# EAGLE library part ULN2803-DIL18 (library GPIOexpander)
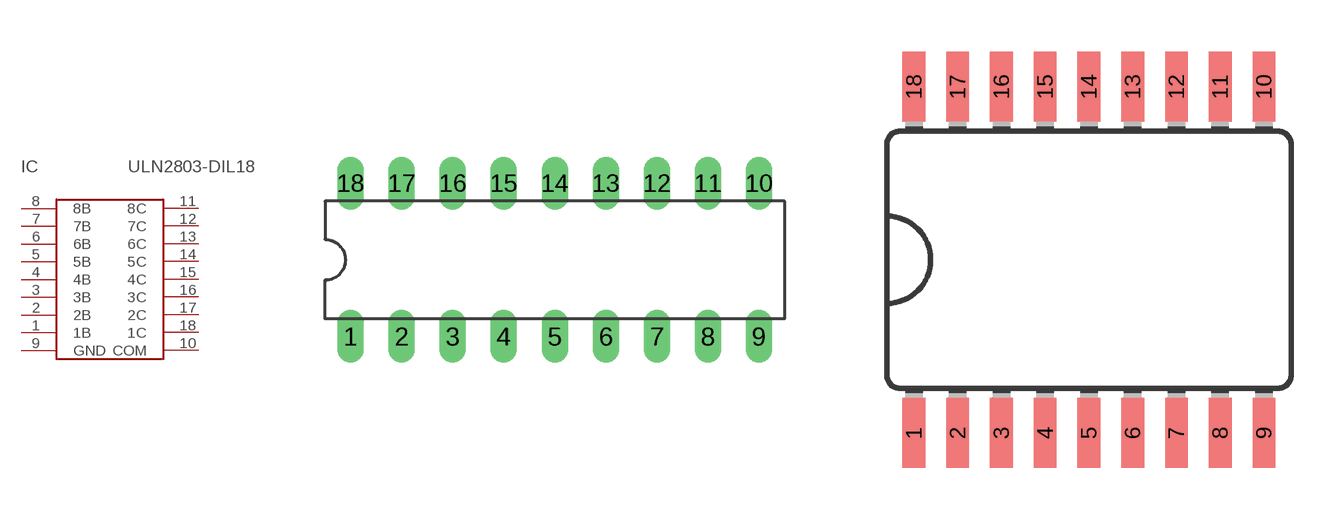
[diagram p1: symbol with the pads of DIL18; footprints DIL18, SO18W]

Designator prefix IC

## ULN2803-DIL18DIL18  [DIL18]
1  1B  in
2  2B  in
3  3B  in
4  4B  in
5  5B  in
6  6B  in
7  7B  in
8  8B  in
9  GND
10  COM  in
11  8C  in
12  7C  in
13  6C  in
14  5C  in
15  4C  in
16  3C  in
17  2C  in
18  1C  in

## ULN2803-DIL18SSOP18  [SO18W]
Pads as for DIL18

## Footprint DIL18 (pad centres in mm)
Dual In Line Package
drill 0.813 long: 1 -10.16,-3.81; 2 -7.62,-3.81; 3 -5.08,-3.81; 4 -2.54,-3.81; 5 0,-3.81; 6 2.54,-3.81; 7 5.08,-3.81; 8 7.62,-3.81; 9 10.16,-3.81; 10 10.16,3.81; 11 7.62,3.81; 12 5.08,3.81; 13 2.54,3.81; 14 0,3.81; 15 -2.54,3.81; 16 -5.08,3.81; 17 -7.62,3.81; 18 -10.16,3.81

## Footprint SO18W (pad centres in mm)
Wide Small Outline package 300 mil
smd 0.66 x 2.032: 1 -5.715,-5.029; 2 -4.445,-5.029; 3 -3.175,-5.029; 4 -1.905,-5.029; 5 -0.635,-5.029; 6 0.635,-5.029; 7 1.905,-5.029; 8 3.175,-5.029; 9 4.445,-5.029; 10 4.445,5.029; 11 3.175,5.029; 12 1.905,5.029; 13 0.635,5.029; 14 -0.635,5.029; 15 -1.905,5.029; 16 -3.175,5.029; 17 -4.445,5.029; 18 -5.715,5.029